# EAGLE library part 1X6 (library aaaacustom)
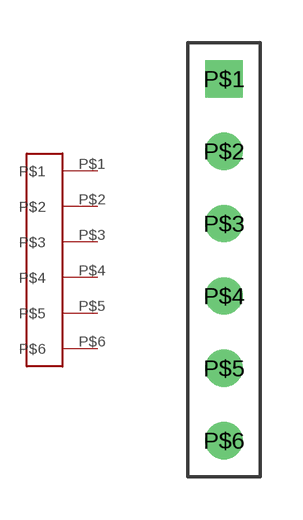
[diagram p4: symbol with the pads of 1X6; footprint 1X6]

Designator prefix -

## 1X6  [1X6]
P$1  P$1
P$2  P$2
P$3  P$3
P$4  P$4
P$5  P$5
P$6  P$6

## Footprint 1X6 (pad centres in mm)
drill 0.8 square: P$1 0,0
drill 0.8: P$2 0,-2.54; P$3 0,-5.08; P$4 0,-7.62; P$5 0,-10.16; P$6 0,-12.7